# EAGLE library part EP1S10_STRATIX_FBGA484 (library altera)
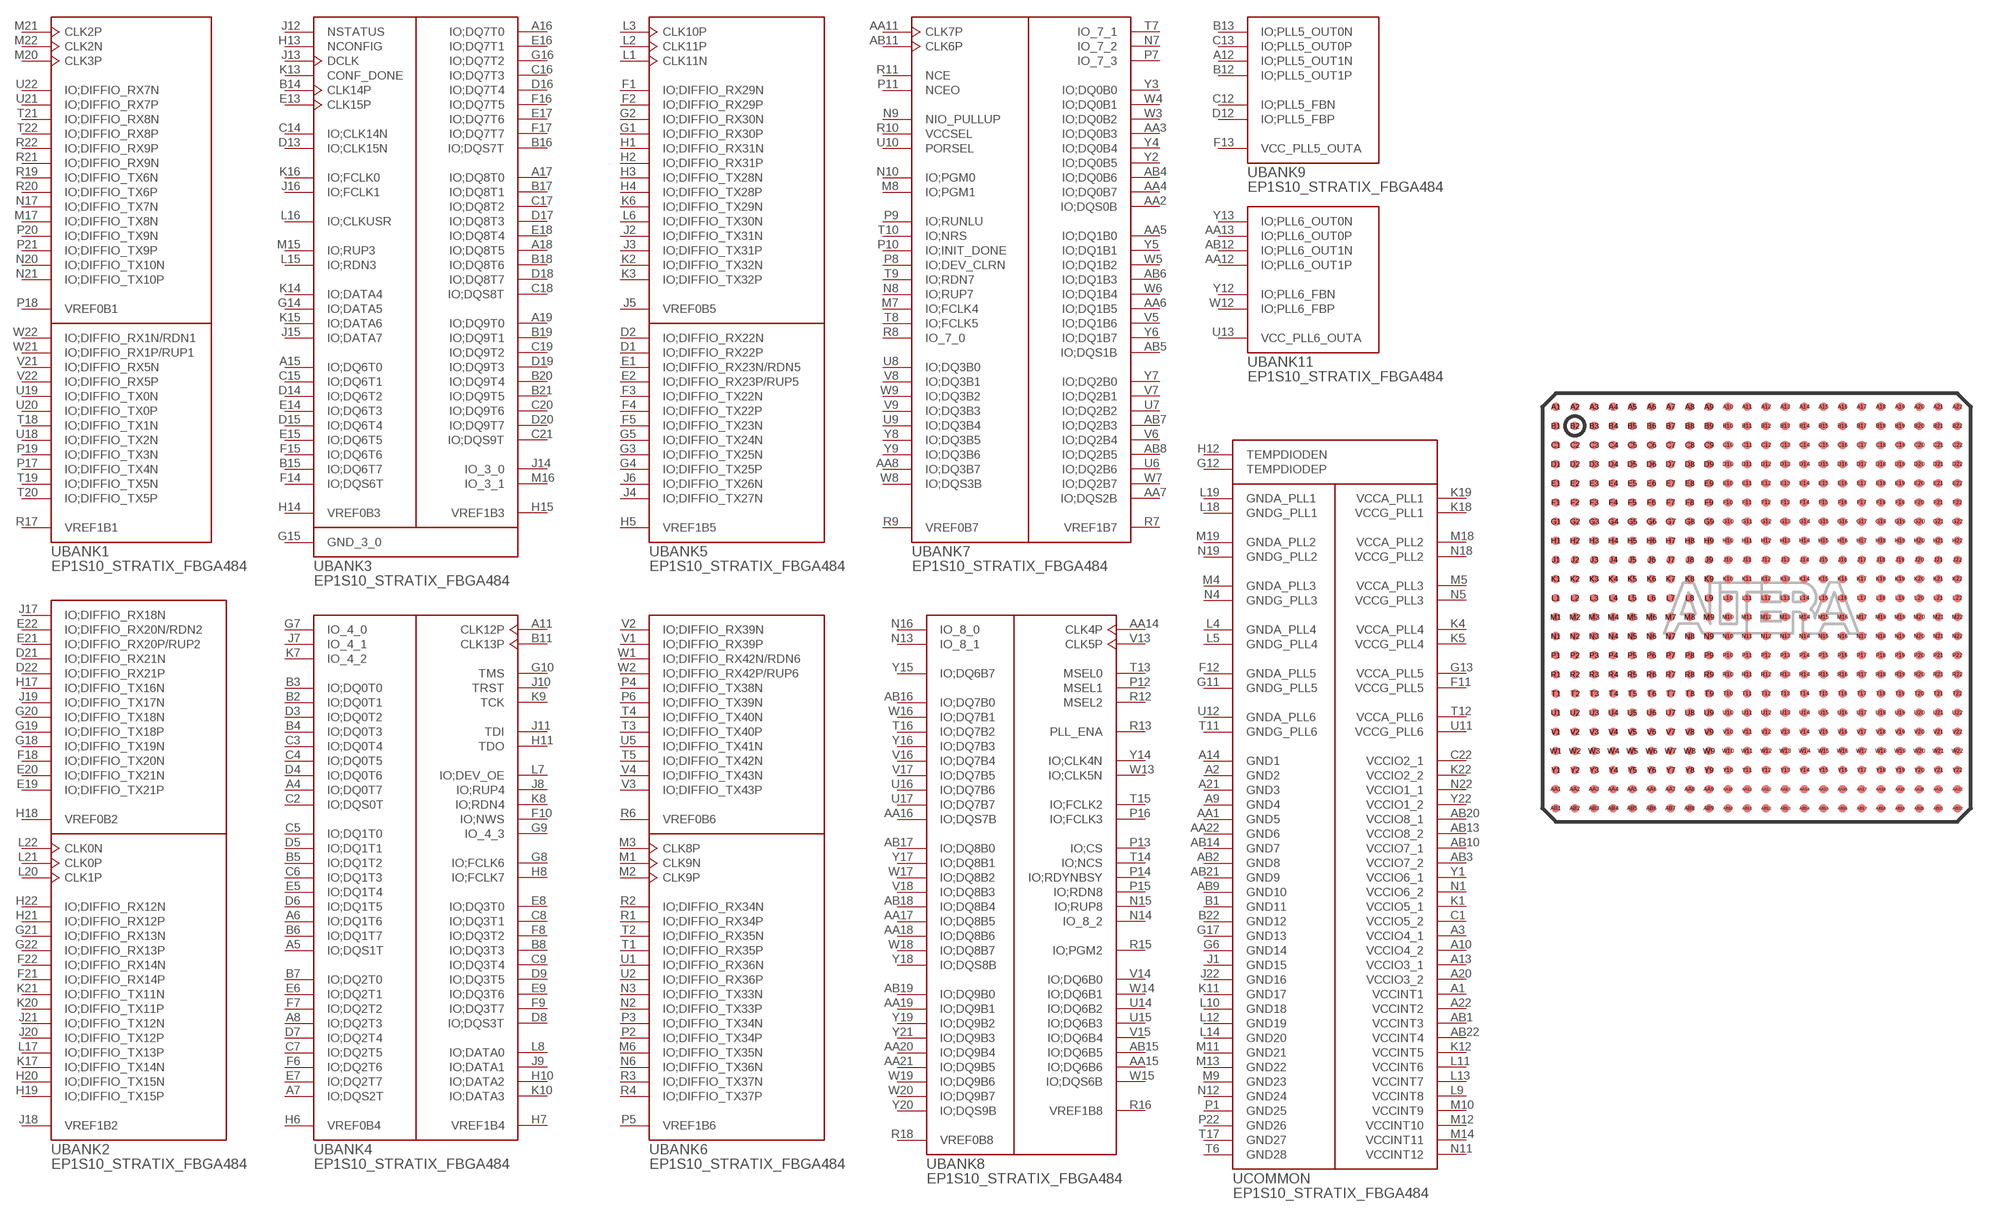
[diagram p63: symbol with the pads of FBGA484; footprint FBGA484]

Designator prefix -; gates COMMON=EP1S10_FBGA484_0 BANK1=EP1S10_FBGA484_1 BANK2=EP1S10_FBGA484_2 BANK3=EP1S10_FBGA484_3 BANK4=EP1S10_FBGA484_4 BANK5=EP1S10_FBGA484_5 BANK6=EP1S10_FBGA484_6 BANK7=EP1S10_FBGA484_7 BANK8=EP1S10_FBGA484_8 BANK9=EP1S10_FBGA484_9 BANK11=EP1S10_FBGA484_11 NC=EP1S10_FBGA484_NC

## EP1S10_STRATIX_FBGA484  [FBGA484]
A1  COMMON:VCCINT1  pwr
A2  COMMON:GND2  pwr
A3  COMMON:VCCIO4_1  pwr
A4  BANK4:IO;DQ0T7
A5  BANK4:IO;DQS1T
A6  BANK4:IO;DQ1T6
A7  BANK4:IO;DQS2T
A8  BANK4:IO;DQ2T3
A9  COMMON:GND4  pwr
A10  COMMON:VCCIO4_2  pwr
A11  BANK4:CLK12P  in
A12  BANK9:IO;PLL5_OUT1N
A13  COMMON:VCCIO3_1  pwr
A14  COMMON:GND1  pwr
A15  BANK3:IO;DQ6T0
A16  BANK3:IO;DQ7T0
A17  BANK3:IO;DQ8T0
A18  BANK3:IO;DQ8T5
A19  BANK3:IO;DQ9T0
A20  COMMON:VCCIO3_2  pwr
A21  COMMON:GND3  pwr
A22  COMMON:VCCINT2  pwr
AA1  COMMON:GND5  pwr
AA2  BANK7:IO;DQS0B
AA3  BANK7:IO;DQ0B3
AA4  BANK7:IO;DQ0B7
AA5  BANK7:IO;DQ1B0
AA6  BANK7:IO;DQ1B5
AA7  BANK7:IO;DQS2B
AA8  BANK7:IO;DQ3B7
AA9  NC:P$2  nc
AA10  NC:P$1  nc
AA11  BANK7:CLK7P  in
AA12  BANK11:IO;PLL6_OUT1P
AA13  BANK11:IO;PLL6_OUT0P
AA14  BANK8:CLK4P  in
AA15  BANK8:IO;DQ6B6
AA16  BANK8:IO;DQS7B
AA17  BANK8:IO;DQ8B5
AA18  BANK8:IO;DQ8B6
AA19  BANK8:IO;DQ9B1
AA20  BANK8:IO;DQ9B4
AA21  BANK8:IO;DQ9B5
AA22  COMMON:GND6  pwr
AB1  COMMON:VCCINT3  pwr
AB2  COMMON:GND8  pwr
AB3  COMMON:VCCIO7_2  pwr
AB4  BANK7:IO;DQ0B6
AB5  BANK7:IO;DQS1B
AB6  BANK7:IO;DQ1B3
AB7  BANK7:IO;DQ2B3
AB8  BANK7:IO;DQ2B5
AB9  COMMON:GND10  pwr
AB10  COMMON:VCCIO7_1  pwr
AB11  BANK7:CLK6P  in
AB12  BANK11:IO;PLL6_OUT1N
AB13  COMMON:VCCIO8_2  pwr
AB14  COMMON:GND7  pwr
AB15  BANK8:IO;DQ6B5
AB16  BANK8:IO;DQ7B0
AB17  BANK8:IO;DQ8B0
AB18  BANK8:IO;DQ8B4
AB19  BANK8:IO;DQ9B0
AB20  COMMON:VCCIO8_1  pwr
AB21  COMMON:GND9  pwr
AB22  COMMON:VCCINT4  pwr
B1  COMMON:GND11  pwr
B2  BANK4:IO;DQ0T1
B3  BANK4:IO;DQ0T0
B4  BANK4:IO;DQ0T3
B5  BANK4:IO;DQ1T2
B6  BANK4:IO;DQ1T7
B7  BANK4:IO;DQ2T0
B8  BANK4:IO;DQ3T3
B9  NC:P$4  nc
B10  NC:P$3  nc
B11  BANK4:CLK13P  in
B12  BANK9:IO;PLL5_OUT1P
B13  BANK9:IO;PLL5_OUT0N
B14  BANK3:CLK14P  in
B15  BANK3:IO;DQ6T7
B16  BANK3:IO;DQS7T
B17  BANK3:IO;DQ8T1
B18  BANK3:IO;DQ8T6
B19  BANK3:IO;DQ9T1
B20  BANK3:IO;DQ9T4
B21  BANK3:IO;DQ9T5
B22  COMMON:GND12  pwr
C1  COMMON:VCCIO5_2  pwr
C2  BANK4:IO;DQS0T
C3  BANK4:IO;DQ0T4
C4  BANK4:IO;DQ0T5
C5  BANK4:IO;DQ1T0
C6  BANK4:IO;DQ1T3
C7  BANK4:IO;DQ2T5
C8  BANK4:IO;DQ3T1
C9  BANK4:IO;DQ3T4
C10  NC:P$5  nc
C11  NC:P$6  nc
C12  BANK9:IO;PLL5_FBN
C13  BANK9:IO;PLL5_OUT0P
C14  BANK3:IO;CLK14N
C15  BANK3:IO;DQ6T1
C16  BANK3:IO;DQ7T3
C17  BANK3:IO;DQ8T2
C18  BANK3:IO;DQS8T
C19  BANK3:IO;DQ9T2
C20  BANK3:IO;DQ9T6
C21  BANK3:IO;DQS9T
C22  COMMON:VCCIO2_1  pwr
D1  BANK5:IO;DIFFIO_RX22P
D2  BANK5:IO;DIFFIO_RX22N
D3  BANK4:IO;DQ0T2
D4  BANK4:IO;DQ0T6
D5  BANK4:IO;DQ1T1
D6  BANK4:IO;DQ1T5
D7  BANK4:IO;DQ2T4
D8  BANK4:IO;DQS3T
D9  BANK4:IO;DQ3T5
D10  NC:P$7  nc
D11  NC:P$8  nc
D12  BANK9:IO;PLL5_FBP
D13  BANK3:IO;CLK15N
D14  BANK3:IO;DQ6T2
D15  BANK3:IO;DQ6T4
D16  BANK3:IO;DQ7T4
D17  BANK3:IO;DQ8T3
D18  BANK3:IO;DQ8T7
D19  BANK3:IO;DQ9T3
D20  BANK3:IO;DQ9T7
D21  BANK2:IO;DIFFIO_RX21N
D22  BANK2:IO;DIFFIO_RX21P
E1  BANK5:IO;DIFFIO_RX23N/RDN5
E2  BANK5:IO;DIFFIO_RX23P/RUP5
E3  NC:P$12  nc
E4  NC:P$13  nc
E5  BANK4:IO;DQ1T4
E6  BANK4:IO;DQ2T1
E7  BANK4:IO;DQ2T7
E8  BANK4:IO;DQ3T0
E9  BANK4:IO;DQ3T6
E10  NC:P$9  nc
E11  NC:P$10  nc
E12  NC:P$11  nc
E13  BANK3:CLK15P  in
E14  BANK3:IO;DQ6T3
E15  BANK3:IO;DQ6T5
E16  BANK3:IO;DQ7T1
E17  BANK3:IO;DQ7T6
E18  BANK3:IO;DQ8T4
E19  BANK2:IO;DIFFIO_TX21P
E20  BANK2:IO;DIFFIO_TX21N
E21  BANK2:IO;DIFFIO_RX20P/RUP2
E22  BANK2:IO;DIFFIO_RX20N/RDN2
F1  BANK5:IO;DIFFIO_RX29N
F2  BANK5:IO;DIFFIO_RX29P
F3  BANK5:IO;DIFFIO_TX22N
F4  BANK5:IO;DIFFIO_TX22P
F5  BANK5:IO;DIFFIO_TX23N
F6  BANK4:IO;DQ2T6
F7  BANK4:IO;DQ2T2
F8  BANK4:IO;DQ3T2
F9  BANK4:IO;DQ3T7
F10  BANK4:IO;NWS
F11  COMMON:VCCG_PLL5  pwr
F12  COMMON:GNDA_PLL5  pwr
F13  BANK9:VCC_PLL5_OUTA  pwr
F14  BANK3:IO;DQS6T
F15  BANK3:IO;DQ6T6
F16  BANK3:IO;DQ7T5
F17  BANK3:IO;DQ7T7
F18  BANK2:IO;DIFFIO_TX20N
F19  NC:P$14  nc
F20  NC:P$15  nc
F21  BANK2:IO;DIFFIO_RX14P
F22  BANK2:IO;DIFFIO_RX14N
G1  BANK5:IO;DIFFIO_RX30P
G2  BANK5:IO;DIFFIO_RX30N
G3  BANK5:IO;DIFFIO_TX25N
G4  BANK5:IO;DIFFIO_TX25P
G5  BANK5:IO;DIFFIO_TX24N
G6  COMMON:GND14  pwr
G7  BANK4:IO_4_0
G8  BANK4:IO;FCLK6
G9  BANK4:IO_4_3
G10  BANK4:TMS  in
G11  COMMON:GNDG_PLL5  pwr
G12  COMMON:TEMPDIODEP  in
G13  COMMON:VCCA_PLL5  pwr
G14  BANK3:IO;DATA5
G15  BANK3:GND_3_0  pwr
G16  BANK3:IO;DQ7T2
G17  COMMON:GND13  pwr
G18  BANK2:IO;DIFFIO_TX19N
G19  BANK2:IO;DIFFIO_TX18P
G20  BANK2:IO;DIFFIO_TX18N
G21  BANK2:IO;DIFFIO_RX13N
G22  BANK2:IO;DIFFIO_RX13P
H1  BANK5:IO;DIFFIO_RX31N
H2  BANK5:IO;DIFFIO_RX31P
H3  BANK5:IO;DIFFIO_TX28N
H4  BANK5:IO;DIFFIO_TX28P
H5  BANK5:VREF1B5  pwr
H6  BANK4:VREF0B4  pwr
H7  BANK4:VREF1B4  pwr
H8  BANK4:IO;FCLK7
H9  NC:P$17  nc
H10  BANK4:IO;DATA2
H11  BANK4:TDO  out
H12  COMMON:TEMPDIODEN  in
H13  BANK3:NCONFIG  in
H14  BANK3:VREF0B3  pwr
H15  BANK3:VREF1B3  pwr
H16  NC:P$16  nc
H17  BANK2:IO;DIFFIO_TX16N
H18  BANK2:VREF0B2  pwr
H19  BANK2:IO;DIFFIO_TX15P
H20  BANK2:IO;DIFFIO_TX15N
H21  BANK2:IO;DIFFIO_RX12P
H22  BANK2:IO;DIFFIO_RX12N
J1  COMMON:GND15  pwr
J2  BANK5:IO;DIFFIO_TX31N
J3  BANK5:IO;DIFFIO_TX31P
J4  BANK5:IO;DIFFIO_TX27N
J5  BANK5:VREF0B5  pwr
J6  BANK5:IO;DIFFIO_TX26N
J7  BANK4:IO_4_1
J8  BANK4:IO;RUP4
J9  BANK4:IO;DATA1
J10  BANK4:TRST  in
J11  BANK4:TDI  in
J12  BANK3:NSTATUS  oc
J13  BANK3:DCLK  in
J14  BANK3:IO_3_0
J15  BANK3:IO;DATA7
J16  BANK3:IO;FCLK1
J17  BANK2:IO;DIFFIO_RX18N
J18  BANK2:VREF1B2  pwr
J19  BANK2:IO;DIFFIO_TX17N
J20  BANK2:IO;DIFFIO_TX12P
J21  BANK2:IO;DIFFIO_TX12N
J22  COMMON:GND16  pwr
K1  COMMON:VCCIO5_1  pwr
K2  BANK5:IO;DIFFIO_TX32N
K3  BANK5:IO;DIFFIO_TX32P
K4  COMMON:VCCA_PLL4  pwr
K5  COMMON:VCCG_PLL4  pwr
K6  BANK5:IO;DIFFIO_TX29N
K7  BANK4:IO_4_2
K8  BANK4:IO;RDN4
K9  BANK4:TCK  in
K10  BANK4:IO;DATA3
K11  COMMON:GND17  pwr
K12  COMMON:VCCINT5  pwr
K13  BANK3:CONF_DONE  oc
K14  BANK3:IO;DATA4
K15  BANK3:IO;DATA6
K16  BANK3:IO;FCLK0
K17  BANK2:IO;DIFFIO_TX14N
K18  COMMON:VCCG_PLL1  pwr
K19  COMMON:VCCA_PLL1  pwr
K20  BANK2:IO;DIFFIO_TX11P
K21  BANK2:IO;DIFFIO_TX11N
K22  COMMON:VCCIO2_2  pwr
L1  BANK5:CLK11N
L2  BANK5:CLK11P  in
L3  BANK5:CLK10P  in
L4  COMMON:GNDA_PLL4  pwr
L5  COMMON:GNDG_PLL4  pwr
L6  BANK5:IO;DIFFIO_TX30N
L7  BANK4:IO;DEV_OE
L8  BANK4:IO;DATA0
L9  COMMON:VCCINT8  pwr
L10  COMMON:GND18  pwr
L11  COMMON:VCCINT6  pwr
L12  COMMON:GND19  pwr
L13  COMMON:VCCINT7  pwr
L14  COMMON:GND20  pwr
L15  BANK3:IO;RDN3
L16  BANK3:IO;CLKUSR
L17  BANK2:IO;DIFFIO_TX13P
L18  COMMON:GNDG_PLL1  pwr
L19  COMMON:GNDA_PLL1  pwr
L20  BANK2:CLK1P  in
L21  BANK2:CLK0P  in
L22  BANK2:CLK0N
M1  BANK6:CLK9N
M2  BANK6:CLK9P  in
M3  BANK6:CLK8P  in
M4  COMMON:GNDA_PLL3  pwr
M5  COMMON:VCCA_PLL3  pwr
M6  BANK6:IO;DIFFIO_TX35N
M7  BANK7:IO;FCLK4
M8  BANK7:IO;PGM1
M9  COMMON:GND23  pwr
M10  COMMON:VCCINT9  pwr
M11  COMMON:GND21  pwr
M12  COMMON:VCCINT10  pwr
M13  COMMON:GND22  pwr
M14  COMMON:VCCINT11  pwr
M15  BANK3:IO;RUP3
M16  BANK3:IO_3_1
M17  BANK1:IO;DIFFIO_TX8N
M18  COMMON:VCCA_PLL2  pwr
M19  COMMON:GNDA_PLL2  pwr
M20  BANK1:CLK3P  in
M21  BANK1:CLK2P  in
M22  BANK1:CLK2N  in
N1  COMMON:VCCIO6_2  pwr
N2  BANK6:IO;DIFFIO_TX33P
N3  BANK6:IO;DIFFIO_TX33N
N4  COMMON:GNDG_PLL3  pwr
N5  COMMON:VCCG_PLL3  pwr
N6  BANK6:IO;DIFFIO_TX36N
N7  BANK7:IO_7_2
N8  BANK7:IO;RUP7
N9  BANK7:NIO_PULLUP  in
N10  BANK7:IO;PGM0
N11  COMMON:VCCINT12  pwr
N12  COMMON:GND24  pwr
N13  BANK8:IO_8_1
N14  BANK8:IO_8_2
N15  BANK8:IO;RUP8
N16  BANK8:IO_8_0
N17  BANK1:IO;DIFFIO_TX7N
N18  COMMON:VCCG_PLL2  pwr
N19  COMMON:GNDG_PLL2  pwr
N20  BANK1:IO;DIFFIO_TX10N
N21  BANK1:IO;DIFFIO_TX10P
N22  COMMON:VCCIO1_1  pwr
P1  COMMON:GND25  pwr
P2  BANK6:IO;DIFFIO_TX34P
P3  BANK6:IO;DIFFIO_TX34N
P4  BANK6:IO;DIFFIO_TX38N
P5  BANK6:VREF1B6  pwr
P6  BANK6:IO;DIFFIO_TX39N
P7  BANK7:IO_7_3
P8  BANK7:IO;DEV_CLRN
P9  BANK7:IO;RUNLU
P10  BANK7:IO;INIT_DONE
P11  BANK7:NCEO  out
P12  BANK8:MSEL1  in
P13  BANK8:IO;CS
P14  BANK8:IO;RDYNBSY
P15  BANK8:IO;RDN8
P16  BANK8:IO;FCLK3
P17  BANK1:IO;DIFFIO_TX4N
P18  BANK1:VREF0B1  pwr
P19  BANK1:IO;DIFFIO_TX3N
P20  BANK1:IO;DIFFIO_TX9N
P21  BANK1:IO;DIFFIO_TX9P
P22  COMMON:GND26  pwr
R1  BANK6:IO;DIFFIO_RX34P
R2  BANK6:IO;DIFFIO_RX34N
R3  BANK6:IO;DIFFIO_TX37N
R4  BANK6:IO;DIFFIO_TX37P
R5  NC:P$19  nc
R6  BANK6:VREF0B6  pwr
R7  BANK7:VREF1B7  pwr
R8  BANK7:IO_7_0
R9  BANK7:VREF0B7  pwr
R10  BANK7:VCCSEL  in
R11  BANK7:NCE  in
R12  BANK8:MSEL2  in
R13  BANK8:PLL_ENA  in
R14  NC:P$18  nc
R15  BANK8:IO;PGM2
R16  BANK8:VREF1B8  pwr
R17  BANK1:VREF1B1  pwr
R18  BANK8:VREF0B8  pwr
R19  BANK1:IO;DIFFIO_TX6N
R20  BANK1:IO;DIFFIO_TX6P
R21  BANK1:IO;DIFFIO_RX9N
R22  BANK1:IO;DIFFIO_RX9P
T1  BANK6:IO;DIFFIO_RX35P
T2  BANK6:IO;DIFFIO_RX35N
T3  BANK6:IO;DIFFIO_TX40P
T4  BANK6:IO;DIFFIO_TX40N
T5  BANK6:IO;DIFFIO_TX42N
T6  COMMON:GND28  pwr
T7  BANK7:IO_7_1
T8  BANK7:IO;FCLK5
T9  BANK7:IO;RDN7
T10  BANK7:IO;NRS
T11  COMMON:GNDG_PLL6  pwr
T12  COMMON:VCCA_PLL6  pwr
T13  BANK8:MSEL0  in
T14  BANK8:IO;NCS
T15  BANK8:IO;FCLK2
T16  BANK8:IO;DQ7B2
T17  COMMON:GND27  pwr
T18  BANK1:IO;DIFFIO_TX1N
T19  BANK1:IO;DIFFIO_TX5N
T20  BANK1:IO;DIFFIO_TX5P
T21  BANK1:IO;DIFFIO_RX8N
T22  BANK1:IO;DIFFIO_RX8P
U1  BANK6:IO;DIFFIO_RX36N
U2  BANK6:IO;DIFFIO_RX36P
U3  NC:P$20  nc
U4  NC:P$21  nc
U5  BANK6:IO;DIFFIO_TX41N
U6  BANK7:IO;DQ2B6
U7  BANK7:IO;DQ2B2
U8  BANK7:IO;DQ3B0
U9  BANK7:IO;DQ3B4
U10  BANK7:PORSEL  in
U11  COMMON:VCCG_PLL6  pwr
U12  COMMON:GNDA_PLL6  pwr
U13  BANK11:VCC_PLL6_OUTA  pwr
U14  BANK8:IO;DQ6B2
U15  BANK8:IO;DQ6B3
U16  BANK8:IO;DQ7B6
U17  BANK8:IO;DQ7B7
U18  BANK1:IO;DIFFIO_TX2N
U19  BANK1:IO;DIFFIO_TX0N
U20  BANK1:IO;DIFFIO_TX0P
U21  BANK1:IO;DIFFIO_RX7P
U22  BANK1:IO;DIFFIO_RX7N
V1  BANK6:IO;DIFFIO_RX39P
V2  BANK6:IO;DIFFIO_RX39N
V3  BANK6:IO;DIFFIO_TX43P
V4  BANK6:IO;DIFFIO_TX43N
V5  BANK7:IO;DQ1B6
V6  BANK7:IO;DQ2B4
V7  BANK7:IO;DQ2B1
V8  BANK7:IO;DQ3B1
V9  BANK7:IO;DQ3B3
V10  NC:P$22  nc
V11  NC:P$23  nc
V12  NC:P$24  nc
V13  BANK8:CLK5P  in
V14  BANK8:IO;DQ6B0
V15  BANK8:IO;DQ6B4
V16  BANK8:IO;DQ7B4
V17  BANK8:IO;DQ7B5
V18  BANK8:IO;DQ8B3
V19  NC:P$25  nc
V20  NC:P$26  nc
V21  BANK1:IO;DIFFIO_RX5N
V22  BANK1:IO;DIFFIO_RX5P
W1  BANK6:IO;DIFFIO_RX42N/RDN6
W2  BANK6:IO;DIFFIO_RX42P/RUP6
W3  BANK7:IO;DQ0B2
W4  BANK7:IO;DQ0B1
W5  BANK7:IO;DQ1B2
W6  BANK7:IO;DQ1B4
W7  BANK7:IO;DQ2B7
W8  BANK7:IO;DQS3B
W9  BANK7:IO;DQ3B2
W10  NC:P$27  nc
W11  NC:P$28  nc
W12  BANK11:IO;PLL6_FBP
W13  BANK8:IO;CLK5N
W14  BANK8:IO;DQ6B1
W15  BANK8:IO;DQS6B
W16  BANK8:IO;DQ7B1
W17  BANK8:IO;DQ8B2
W18  BANK8:IO;DQ8B7
W19  BANK8:IO;DQ9B6
W20  BANK8:IO;DQ9B7
W21  BANK1:IO;DIFFIO_RX1P/RUP1
W22  BANK1:IO;DIFFIO_RX1N/RDN1
Y1  COMMON:VCCIO6_1  pwr
Y2  BANK7:IO;DQ0B5
Y3  BANK7:IO;DQ0B0
Y4  BANK7:IO;DQ0B4
Y5  BANK7:IO;DQ1B1
Y6  BANK7:IO;DQ1B7
Y7  BANK7:IO;DQ2B0
Y8  BANK7:IO;DQ3B5
Y9  BANK7:IO;DQ3B6
Y10  NC:P$29  nc
Y11  NC:P$30  nc
Y12  BANK11:IO;PLL6_FBN
Y13  BANK11:IO;PLL6_OUT0N
Y14  BANK8:IO;CLK4N
Y15  BANK8:IO;DQ6B7
Y16  BANK8:IO;DQ7B3
Y17  BANK8:IO;DQ8B1
Y18  BANK8:IO;DQS8B
Y19  BANK8:IO;DQ9B2
Y20  BANK8:IO;DQS9B
Y21  BANK8:IO;DQ9B3
Y22  COMMON:VCCIO1_2  pwr

## Footprint FBGA484 (pad centres in mm)
Fine Ball Grid Array
smd 0.45 x 0.45: A1 -10.5,10.5; A2 -9.5,10.5; A3 -8.5,10.5; A4 -7.5,10.5; A5 -6.5,10.5; A6 -5.5,10.5; A7 -4.5,10.5; A8 -3.5,10.5; A9 -2.5,10.5; A10 -1.5,10.5; A11 -0.5,10.5; A12 0.5,10.5; A13 1.5,10.5; A14 2.5,10.5; A15 3.5,10.5; A16 4.5,10.5; A17 5.5,10.5; A18 6.5,10.5; A19 7.5,10.5; A20 8.5,10.5; A21 9.5,10.5; A22 10.5,10.5; AA1 -10.5,-9.5; AA2 -9.5,-9.5; AA3 -8.5,-9.5; AA4 -7.5,-9.5; AA5 -6.5,-9.5; AA6 -5.5,-9.5; AA7 -4.5,-9.5; AA8 -3.5,-9.5; AA9 -2.5,-9.5; AA10 -1.5,-9.5; AA11 -0.5,-9.5; AA12 0.5,-9.5; AA13 1.5,-9.5; AA14 2.5,-9.5; AA15 3.5,-9.5; AA16 4.5,-9.5; AA17 5.5,-9.5; AA18 6.5,-9.5; AA19 7.5,-9.5; AA20 8.5,-9.5; AA21 9.5,-9.5; AA22 10.5,-9.5; AB1 -10.5,-10.5; AB2 -9.5,-10.5; AB3 -8.5,-10.5; AB4 -7.5,-10.5; AB5 -6.5,-10.5; AB6 -5.5,-10.5; AB7 -4.5,-10.5; AB8 -3.5,-10.5; AB9 -2.5,-10.5; AB10 -1.5,-10.5; AB11 -0.5,-10.5; AB12 0.5,-10.5; AB13 1.5,-10.5; AB14 2.5,-10.5; AB15 3.5,-10.5; AB16 4.5,-10.5; AB17 5.5,-10.5; AB18 6.5,-10.5; AB19 7.5,-10.5; AB20 8.5,-10.5; AB21 9.5,-10.5; AB22 10.5,-10.5; B1 -10.5,9.5; B2 -9.5,9.5; B3 -8.5,9.5; B4 -7.5,9.5; B5 -6.5,9.5; B6 -5.5,9.5; B7 -4.5,9.5; B8 -3.5,9.5; B9 -2.5,9.5; B10 -1.5,9.5; B11 -0.5,9.5; B12 0.5,9.5; B13 1.5,9.5; B14 2.5,9.5; B15 3.5,9.5; B16 4.5,9.5; B17 5.5,9.5; B18 6.5,9.5; B19 7.5,9.5; B20 8.5,9.5; B21 9.5,9.5; B22 10.5,9.5; C1 -10.5,8.5; C2 -9.5,8.5; C3 -8.5,8.5; C4 -7.5,8.5; C5 -6.5,8.5; C6 -5.5,8.5; C7 -4.5,8.5; C8 -3.5,8.5; C9 -2.5,8.5; C10 -1.5,8.5; C11 -0.5,8.5; C12 0.5,8.5; C13 1.5,8.5; C14 2.5,8.5; C15 3.5,8.5; C16 4.5,8.5; C17 5.5,8.5; C18 6.5,8.5; C19 7.5,8.5; C20 8.5,8.5; C21 9.5,8.5; C22 10.5,8.5; D1 -10.5,7.5; D2 -9.5,7.5; D3 -8.5,7.5; D4 -7.5,7.5; D5 -6.5,7.5; D6 -5.5,7.5; D7 -4.5,7.5; D8 -3.5,7.5; D9 -2.5,7.5; D10 -1.5,7.5; D11 -0.5,7.5; D12 0.5,7.5; D13 1.5,7.5; D14 2.5,7.5; D15 3.5,7.5; D16 4.5,7.5; D17 5.5,7.5; D18 6.5,7.5; D19 7.5,7.5; D20 8.5,7.5; D21 9.5,7.5; D22 10.5,7.5; E1 -10.5,6.5; E2 -9.5,6.5; E3 -8.5,6.5; E4 -7.5,6.5; E5 -6.5,6.5; E6 -5.5,6.5; E7 -4.5,6.5; E8 -3.5,6.5; E9 -2.5,6.5; E10 -1.5,6.5; E11 -0.5,6.5; E12 0.5,6.5; E13 1.5,6.5; E14 2.5,6.5; E15 3.5,6.5; E16 4.5,6.5; E17 5.5,6.5; E18 6.5,6.5; E19 7.5,6.5; E20 8.5,6.5; E21 9.5,6.5; E22 10.5,6.5; F1 -10.5,5.5; F2 -9.5,5.5; F3 -8.5,5.5; F4 -7.5,5.5; F5 -6.5,5.5; F6 -5.5,5.5; F7 -4.5,5.5; F8 -3.5,5.5; F9 -2.5,5.5; F10 -1.5,5.5; F11 -0.5,5.5; F12 0.5,5.5; F13 1.5,5.5; F14 2.5,5.5; F15 3.5,5.5; F16 4.5,5.5; F17 5.5,5.5; F18 6.5,5.5; F19 7.5,5.5; F20 8.5,5.5; F21 9.5,5.5; F22 10.5,5.5; G1 -10.5,4.5; G2 -9.5,4.5; G3 -8.5,4.5; G4 -7.5,4.5; G5 -6.5,4.5; G6 -5.5,4.5; G7 -4.5,4.5; G8 -3.5,4.5; G9 -2.5,4.5; G10 -1.5,4.5; G11 -0.5,4.5; G12 0.5,4.5; G13 1.5,4.5; G14 2.5,4.5; G15 3.5,4.5; G16 4.5,4.5; G17 5.5,4.5; G18 6.5,4.5; G19 7.5,4.5; G20 8.5,4.5; G21 9.5,4.5; G22 10.5,4.5; H1 -10.5,3.5; H2 -9.5,3.5; H3 -8.5,3.5; H4 -7.5,3.5; H5 -6.5,3.5; H6 -5.5,3.5; H7 -4.5,3.5; H8 -3.5,3.5; H9 -2.5,3.5; H10 -1.5,3.5; H11 -0.5,3.5; H12 0.5,3.5; H13 1.5,3.5; H14 2.5,3.5; H15 3.5,3.5; H16 4.5,3.5; H17 5.5,3.5; H18 6.5,3.5; H19 7.5,3.5; H20 8.5,3.5; H21 9.5,3.5; H22 10.5,3.5; J1 -10.5,2.5; J2 -9.5,2.5; J3 -8.5,2.5; J4 -7.5,2.5; J5 -6.5,2.5; J6 -5.5,2.5; J7 -4.5,2.5; J8 -3.5,2.5; J9 -2.5,2.5; J10 -1.5,2.5; J11 -0.5,2.5; J12 0.5,2.5; J13 1.5,2.5; J14 2.5,2.5; J15 3.5,2.5; J16 4.5,2.5; J17 5.5,2.5; J18 6.5,2.5; J19 7.5,2.5; J20 8.5,2.5; J21 9.5,2.5; J22 10.5,2.5; K1 -10.5,1.5; K2 -9.5,1.5; K3 -8.5,1.5; K4 -7.5,1.5; K5 -6.5,1.5; K6 -5.5,1.5; K7 -4.5,1.5; K8 -3.5,1.5; K9 -2.5,1.5; K10 -1.5,1.5; K11 -0.5,1.5; K12 0.5,1.5; K13 1.5,1.5; K14 2.5,1.5; K15 3.5,1.5; K16 4.5,1.5; K17 5.5,1.5; K18 6.5,1.5; K19 7.5,1.5; K20 8.5,1.5; K21 9.5,1.5; K22 10.5,1.5; L1 -10.5,0.5; L2 -9.5,0.5; L3 -8.5,0.5; L4 -7.5,0.5; L5 -6.5,0.5; L6 -5.5,0.5; L7 -4.5,0.5; L8 -3.5,0.5; L9 -2.5,0.5; L10 -1.5,0.5; L11 -0.5,0.5; L12 0.5,0.5; L13 1.5,0.5; L14 2.5,0.5; L15 3.5,0.5; L16 4.5,0.5; L17 5.5,0.5; L18 6.5,0.5; L19 7.5,0.5; L20 8.5,0.5; L21 9.5,0.5; L22 10.5,0.5; M1 -10.5,-0.5; M2 -9.5,-0.5; M3 -8.5,-0.5; M4 -7.5,-0.5; M5 -6.5,-0.5; M6 -5.5,-0.5; M7 -4.5,-0.5; M8 -3.5,-0.5; M9 -2.5,-0.5; M10 -1.5,-0.5; M11 -0.5,-0.5; M12 0.5,-0.5; M13 1.5,-0.5; M14 2.5,-0.5; M15 3.5,-0.5; M16 4.5,-0.5; M17 5.5,-0.5; M18 6.5,-0.5; M19 7.5,-0.5; M20 8.5,-0.5; M21 9.5,-0.5; M22 10.5,-0.5; N1 -10.5,-1.5; N2 -9.5,-1.5; N3 -8.5,-1.5; N4 -7.5,-1.5; N5 -6.5,-1.5; N6 -5.5,-1.5; N7 -4.5,-1.5; N8 -3.5,-1.5; N9 -2.5,-1.5; N10 -1.5,-1.5; N11 -0.5,-1.5; N12 0.5,-1.5; N13 1.5,-1.5; N14 2.5,-1.5; N15 3.5,-1.5; N16 4.5,-1.5; N17 5.5,-1.5; N18 6.5,-1.5; N19 7.5,-1.5; N20 8.5,-1.5; N21 9.5,-1.5; N22 10.5,-1.5; P1 -10.5,-2.5; P2 -9.5,-2.5; P3 -8.5,-2.5; P4 -7.5,-2.5; P5 -6.5,-2.5; P6 -5.5,-2.5; P7 -4.5,-2.5; P8 -3.5,-2.5; P9 -2.5,-2.5; P10 -1.5,-2.5; P11 -0.5,-2.5; P12 0.5,-2.5; P13 1.5,-2.5; P14 2.5,-2.5; P15 3.5,-2.5; P16 4.5,-2.5; P17 5.5,-2.5; P18 6.5,-2.5; P19 7.5,-2.5; P20 8.5,-2.5; P21 9.5,-2.5; P22 10.5,-2.5; R1 -10.5,-3.5; R2 -9.5,-3.5; R3 -8.5,-3.5; R4 -7.5,-3.5; R5 -6.5,-3.5; R6 -5.5,-3.5; R7 -4.5,-3.5; R8 -3.5,-3.5; R9 -2.5,-3.5; R10 -1.5,-3.5; R11 -0.5,-3.5; R12 0.5,-3.5; R13 1.5,-3.5; R14 2.5,-3.5; R15 3.5,-3.5; R16 4.5,-3.5; R17 5.5,-3.5; R18 6.5,-3.5; R19 7.5,-3.5; R20 8.5,-3.5; R21 9.5,-3.5; R22 10.5,-3.5; T1 -10.5,-4.5; T2 -9.5,-4.5; T3 -8.5,-4.5; T4 -7.5,-4.5; T5 -6.5,-4.5; T6 -5.5,-4.5; T7 -4.5,-4.5; T8 -3.5,-4.5; T9 -2.5,-4.5; T10 -1.5,-4.5; T11 -0.5,-4.5; T12 0.5,-4.5; T13 1.5,-4.5; T14 2.5,-4.5; T15 3.5,-4.5; T16 4.5,-4.5; T17 5.5,-4.5; T18 6.5,-4.5; T19 7.5,-4.5; T20 8.5,-4.5; T21 9.5,-4.5; T22 10.5,-4.5; U1 -10.5,-5.5; U2 -9.5,-5.5; U3 -8.5,-5.5; U4 -7.5,-5.5; U5 -6.5,-5.5; U6 -5.5,-5.5; U7 -4.5,-5.5; U8 -3.5,-5.5; U9 -2.5,-5.5; U10 -1.5,-5.5; U11 -0.5,-5.5; U12 0.5,-5.5; U13 1.5,-5.5; U14 2.5,-5.5; U15 3.5,-5.5; U16 4.5,-5.5; U17 5.5,-5.5; U18 6.5,-5.5; U19 7.5,-5.5; U20 8.5,-5.5; U21 9.5,-5.5; U22 10.5,-5.5; V1 -10.5,-6.5; V2 -9.5,-6.5; V3 -8.5,-6.5; V4 -7.5,-6.5; V5 -6.5,-6.5; V6 -5.5,-6.5; V7 -4.5,-6.5; V8 -3.5,-6.5; V9 -2.5,-6.5; V10 -1.5,-6.5; V11 -0.5,-6.5; V12 0.5,-6.5; V13 1.5,-6.5; V14 2.5,-6.5; V15 3.5,-6.5; V16 4.5,-6.5; V17 5.5,-6.5; V18 6.5,-6.5; V19 7.5,-6.5; V20 8.5,-6.5; V21 9.5,-6.5; V22 10.5,-6.5; W1 -10.5,-7.5; W2 -9.5,-7.5; W3 -8.5,-7.5; W4 -7.5,-7.5; W5 -6.5,-7.5; W6 -5.5,-7.5; W7 -4.5,-7.5; W8 -3.5,-7.5; W9 -2.5,-7.5; W10 -1.5,-7.5; W11 -0.5,-7.5; W12 0.5,-7.5; W13 1.5,-7.5; W14 2.5,-7.5; W15 3.5,-7.5; W16 4.5,-7.5; W17 5.5,-7.5; W18 6.5,-7.5; W19 7.5,-7.5; W20 8.5,-7.5; W21 9.5,-7.5; W22 10.5,-7.5; Y1 -10.5,-8.5; Y2 -9.5,-8.5; Y3 -8.5,-8.5; Y4 -7.5,-8.5; Y5 -6.5,-8.5; Y6 -5.5,-8.5; Y7 -4.5,-8.5; Y8 -3.5,-8.5; Y9 -2.5,-8.5; Y10 -1.5,-8.5; Y11 -0.5,-8.5; Y12 0.5,-8.5; Y13 1.5,-8.5; Y14 2.5,-8.5; Y15 3.5,-8.5; Y16 4.5,-8.5; Y17 5.5,-8.5; Y18 6.5,-8.5; Y19 7.5,-8.5; Y20 8.5,-8.5; Y21 9.5,-8.5; Y22 10.5,-8.5